# EAGLE library part ALTERA_CYCLONE_IV_EP4CE22 (library cyberhedz)
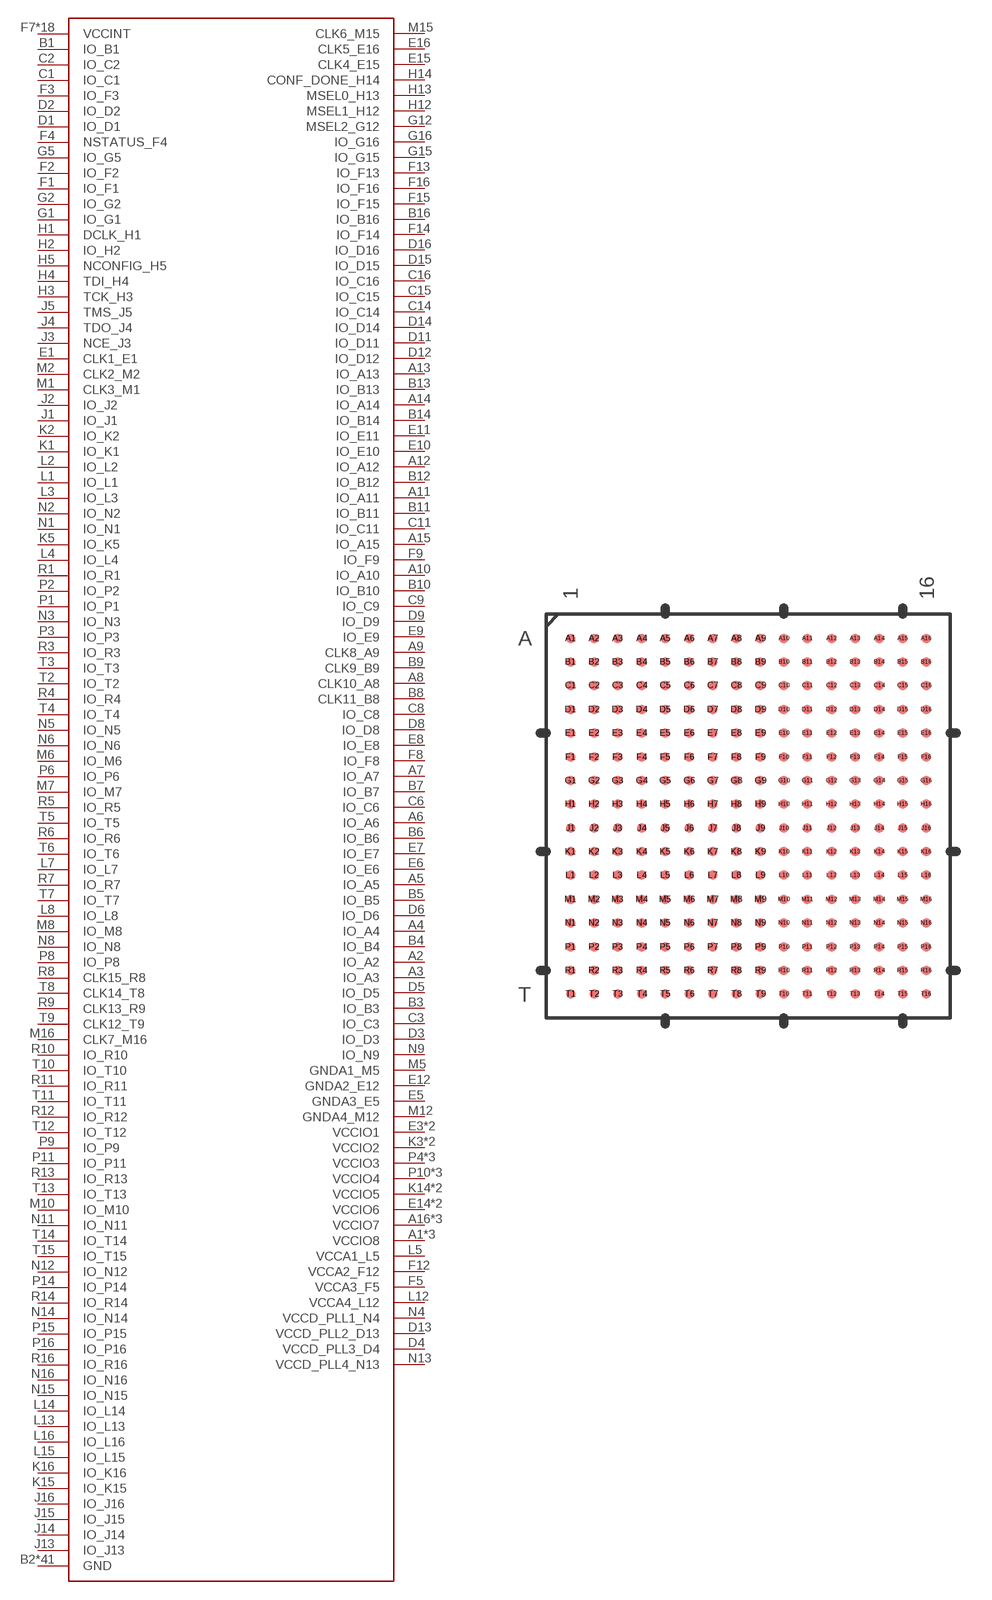
[diagram p12: symbol with the pads of FBGA_256; footprint FBGA_256]

Designator prefix -

## ALTERA_CYCLONE_IV_EP4CE22  [FBGA_256]
A1  VCCIO8
A2  IO_A2
A3  IO_A3
A4  IO_A4
A5  IO_A5
A6  IO_A6
A7  IO_A7
A8  CLK10_A8
A9  CLK8_A9
A10  IO_A10
A11  IO_A11
A12  IO_A12
A13  IO_A13
A14  IO_A14
A15  IO_A15
A16  VCCIO7
B1  IO_B1
B2  GND
B3  IO_B3
B4  IO_B4
B5  IO_B5
B6  IO_B6
B7  IO_B7
B8  CLK11_B8
B9  CLK9_B9
B10  IO_B10
B11  IO_B11
B12  IO_B12
B13  IO_B13
B14  IO_B14
B15  GND
B16  IO_B16
C1  IO_C1
C2  IO_C2
C3  IO_C3
C4  VCCIO8
C5  GND
C6  IO_C6
C7  VCCIO8
C8  IO_C8
C9  IO_C9
C10  VCCIO7
C11  IO_C11
C12  GND
C13  VCCIO7
C14  IO_C14
C15  IO_C15
C16  IO_C16
D1  IO_D1
D2  IO_D2
D3  IO_D3
D4  VCCD_PLL3_D4
D5  IO_D5
D6  IO_D6
D7  GND
D8  IO_D8
D9  IO_D9
D10  GND
D11  IO_D11
D12  IO_D12
D13  VCCD_PLL2_D13
D14  IO_D14
D15  IO_D15
D16  IO_D16
E1  CLK1_E1
E2  GND
E3  VCCIO1
E4  GND
E5  GNDA3_E5
E6  IO_E6
E7  IO_E7
E8  IO_E8
E9  IO_E9
E10  IO_E10
E11  IO_E11
E12  GNDA2_E12
E13  GND
E14  VCCIO6
E15  CLK4_E15
E16  CLK5_E16
F1  IO_F1
F2  IO_F2
F3  IO_F3
F4  NSTATUS_F4
F5  VCCA3_F5
F6  GND
F7  VCCINT
F8  IO_F8
F9  IO_F9
F10  GND
F11  VCCINT
F12  VCCA2_F12
F13  IO_F13
F14  IO_F14
F15  IO_F15
F16  IO_F16
G1  IO_G1
G2  IO_G2
G3  VCCIO1
G4  GND
G5  IO_G5
G6  VCCINT
G7  VCCINT
G8  VCCINT
G9  VCCINT
G10  VCCINT
G11  GND
G12  MSEL2_G12
G13  GND
G14  VCCIO6
G15  IO_G15
G16  IO_G16
H1  DCLK_H1
H2  IO_H2
H3  TCK_H3
H4  TDI_H4
H5  NCONFIG_H5
H6  VCCINT
H7  GND
H8  GND
H9  GND
H10  GND
H11  VCCINT
H12  MSEL1_H12
H13  MSEL0_H13
H14  CONF_DONE_H14
H15  GND
H16  GND
J1  IO_J1
J2  IO_J2
J3  NCE_J3
J4  TDO_J4
J5  TMS_J5
J6  VCCINT
J7  GND
J8  GND
J9  GND
J10  GND
J11  GND
J12  VCCINT
J13  IO_J13
J14  IO_J14
J15  IO_J15
J16  IO_J16
K1  IO_K1
K2  IO_K2
K3  VCCIO2
K4  GND
K5  IO_K5
K6  GND
K7  VCCINT
K8  GND
K9  VCCINT
K10  VCCINT
K11  VCCINT
K12  GND
K13  GND
K14  VCCIO5
K15  IO_K15
K16  IO_K16
L1  IO_L1
L2  IO_L2
L3  IO_L3
L4  IO_L4
L5  VCCA1_L5
L6  VCCINT
L7  IO_L7
L8  IO_L8
L9  GND
L10  GND
L11  GND
L12  VCCA4_L12
L13  IO_L13
L14  IO_L14
L15  IO_L15
L16  IO_L16
M1  CLK3_M1
M2  CLK2_M2
M3  VCCIO2
M4  GND
M5  GNDA1_M5
M6  IO_M6
M7  IO_M7
M8  IO_M8
M9  VCCINT
M10  IO_M10
M11  VCCINT
M12  GNDA4_M12
M13  GND
M14  VCCIO5
M15  CLK6_M15
M16  CLK7_M16
N1  IO_N1
N2  IO_N2
N3  IO_N3
N4  VCCD_PLL1_N4
N5  IO_N5
N6  IO_N6
N7  GND
N8  IO_N8
N9  IO_N9
N10  GND
N11  IO_N11
N12  IO_N12
N13  VCCD_PLL4_N13
N14  IO_N14
N15  IO_N15
N16  IO_N16
P1  IO_P1
P2  IO_P2
P3  IO_P3
P4  VCCIO3
P5  GND
P6  IO_P6
P7  VCCIO3
P8  IO_P8
P9  IO_P9
P10  VCCIO4
P11  IO_P11
P12  GND
P13  VCCIO4
P14  IO_P14
P15  IO_P15
P16  IO_P16
R1  IO_R1
R2  GND
R3  IO_R3
R4  IO_R4
R5  IO_R5
R6  IO_R6
R7  IO_R7
R8  CLK15_R8
R9  CLK13_R9
R10  IO_R10
R11  IO_R11
R12  IO_R12
R13  IO_R13
R14  IO_R14
R15  GND
R16  IO_R16
T1  VCCIO3
T2  IO_T2
T3  IO_T3
T4  IO_T4
T5  IO_T5
T6  IO_T6
T7  IO_T7
T8  CLK14_T8
T9  CLK12_T9
T10  IO_T10
T11  IO_T11
T12  IO_T12
T13  IO_T13
T14  IO_T14
T15  IO_T15
T16  VCCIO4

## Footprint FBGA_256 (pad centres in mm)
smd 0.406 x 0.406: A1 -7.493,7.493; A2 -6.502,7.493; A3 -5.512,7.493; A4 -4.496,7.493; A5 -3.505,7.493; A6 -2.489,7.493; A7 -1.499,7.493; A8 -0.508,7.493; A9 0.508,7.493; A10 1.499,7.493; A11 2.489,7.493; A12 3.505,7.493; A13 4.496,7.493; A14 5.512,7.493; A15 6.502,7.493; A16 7.493,7.493; B1 -7.493,6.502; B2 -6.502,6.502; B3 -5.512,6.502; B4 -4.496,6.502; B5 -3.505,6.502; B6 -2.489,6.502; B7 -1.499,6.502; B8 -0.508,6.502; B9 0.508,6.502; B10 1.499,6.502; B11 2.489,6.502; B12 3.505,6.502; B13 4.496,6.502; B14 5.512,6.502; B15 6.502,6.502; B16 7.493,6.502; C1 -7.493,5.512; C2 -6.502,5.512; C3 -5.512,5.512; C4 -4.496,5.512; C5 -3.505,5.512; C6 -2.489,5.512; C7 -1.499,5.512; C8 -0.508,5.512; C9 0.508,5.512; C10 1.499,5.512; C11 2.489,5.512; C12 3.505,5.512; C13 4.496,5.512; C14 5.512,5.512; C15 6.502,5.512; C16 7.493,5.512; D1 -7.493,4.496; D2 -6.502,4.496; D3 -5.512,4.496; D4 -4.496,4.496; D5 -3.505,4.496; D6 -2.489,4.496; D7 -1.499,4.496; D8 -0.508,4.496; D9 0.508,4.496; D10 1.499,4.496; D11 2.489,4.496; D12 3.505,4.496; D13 4.496,4.496; D14 5.512,4.496; D15 6.502,4.496; D16 7.493,4.496; E1 -7.493,3.505; E2 -6.502,3.505; E3 -5.512,3.505; E4 -4.496,3.505; E5 -3.505,3.505; E6 -2.489,3.505; E7 -1.499,3.505; E8 -0.508,3.505; E9 0.508,3.505; E10 1.499,3.505; E11 2.489,3.505; E12 3.505,3.505; E13 4.496,3.505; E14 5.512,3.505; E15 6.502,3.505; E16 7.493,3.505; F1 -7.493,2.489; F2 -6.502,2.489; F3 -5.512,2.489; F4 -4.496,2.489; F5 -3.505,2.489; F6 -2.489,2.489; F7 -1.499,2.489; F8 -0.508,2.489; F9 0.508,2.489; F10 1.499,2.489; F11 2.489,2.489; F12 3.505,2.489; F13 4.496,2.489; F14 5.512,2.489; F15 6.502,2.489; F16 7.493,2.489; G1 -7.493,1.499; G2 -6.502,1.499; G3 -5.512,1.499; G4 -4.496,1.499; G5 -3.505,1.499; G6 -2.489,1.499; G7 -1.499,1.499; G8 -0.508,1.499; G9 0.508,1.499; G10 1.499,1.499; G11 2.489,1.499; G12 3.505,1.499; G13 4.496,1.499; G14 5.512,1.499; G15 6.502,1.499; G16 7.493,1.499; H1 -7.493,0.508; H2 -6.502,0.508; H3 -5.512,0.508; H4 -4.496,0.508; H5 -3.505,0.508; H6 -2.489,0.508; H7 -1.499,0.508; H8 -0.508,0.508; H9 0.508,0.508; H10 1.499,0.508; H11 2.489,0.508; H12 3.505,0.508; H13 4.496,0.508; H14 5.512,0.508; H15 6.502,0.508; H16 7.493,0.508; J1 -7.493,-0.508; J2 -6.502,-0.508; J3 -5.512,-0.508; J4 -4.496,-0.508; J5 -3.505,-0.508; J6 -2.489,-0.508; J7 -1.499,-0.508; J8 -0.508,-0.508; J9 0.508,-0.508; J10 1.499,-0.508; J11 2.489,-0.508; J12 3.505,-0.508; J13 4.496,-0.508; J14 5.512,-0.508; J15 6.502,-0.508; J16 7.493,-0.508; K1 -7.493,-1.499; K2 -6.502,-1.499; K3 -5.512,-1.499; K4 -4.496,-1.499; K5 -3.505,-1.499; K6 -2.489,-1.499; K7 -1.499,-1.499; K8 -0.508,-1.499; K9 0.508,-1.499; K10 1.499,-1.499; K11 2.489,-1.499; K12 3.505,-1.499; K13 4.496,-1.499; K14 5.512,-1.499; K15 6.502,-1.499; K16 7.493,-1.499; L1 -7.493,-2.489; L2 -6.502,-2.489; L3 -5.512,-2.489; L4 -4.496,-2.489; L5 -3.505,-2.489; L6 -2.489,-2.489; L7 -1.499,-2.489; L8 -0.508,-2.489; L9 0.508,-2.489; L10 1.499,-2.489; L11 2.489,-2.489; L12 3.505,-2.489; L13 4.496,-2.489; L14 5.512,-2.489; L15 6.502,-2.489; L16 7.493,-2.489; M1 -7.493,-3.505; M2 -6.502,-3.505; M3 -5.512,-3.505; M4 -4.496,-3.505; M5 -3.505,-3.505; M6 -2.489,-3.505; M7 -1.499,-3.505; M8 -0.508,-3.505; M9 0.508,-3.505; M10 1.499,-3.505; M11 2.489,-3.505; M12 3.505,-3.505; M13 4.496,-3.505; M14 5.512,-3.505; M15 6.502,-3.505; M16 7.493,-3.505; N1 -7.493,-4.496; N2 -6.502,-4.496; N3 -5.512,-4.496; N4 -4.496,-4.496; N5 -3.505,-4.496; N6 -2.489,-4.496; N7 -1.499,-4.496; N8 -0.508,-4.496; N9 0.508,-4.496; N10 1.499,-4.496; N11 2.489,-4.496; N12 3.505,-4.496; N13 4.496,-4.496; N14 5.512,-4.496; N15 6.502,-4.496; N16 7.493,-4.496; P1 -7.493,-5.512; P2 -6.502,-5.512; P3 -5.512,-5.512; P4 -4.496,-5.512; P5 -3.505,-5.512; P6 -2.489,-5.512; P7 -1.499,-5.512; P8 -0.508,-5.512; P9 0.508,-5.512; P10 1.499,-5.512; P11 2.489,-5.512; P12 3.505,-5.512; P13 4.496,-5.512; P14 5.512,-5.512; P15 6.502,-5.512; P16 7.493,-5.512; R1 -7.493,-6.502; R2 -6.502,-6.502; R3 -5.512,-6.502; R4 -4.496,-6.502; R5 -3.505,-6.502; R6 -2.489,-6.502; R7 -1.499,-6.502; R8 -0.508,-6.502; R9 0.508,-6.502; R10 1.499,-6.502; R11 2.489,-6.502; R12 3.505,-6.502; R13 4.496,-6.502; R14 5.512,-6.502; R15 6.502,-6.502; R16 7.493,-6.502; T1 -7.493,-7.493; T2 -6.502,-7.493; T3 -5.512,-7.493; T4 -4.496,-7.493; T5 -3.505,-7.493; T6 -2.489,-7.493; T7 -1.499,-7.493; T8 -0.508,-7.493; T9 0.508,-7.493; T10 1.499,-7.493; T11 2.489,-7.493; T12 3.505,-7.493; T13 4.496,-7.493; T14 5.512,-7.493; T15 6.502,-7.493; T16 7.493,-7.493